# Altium schematic symbol library AD5689RBRUZ.SchLib: 1 symbol
Pins are listed as number, name and electrical type; pins without a type are passive.

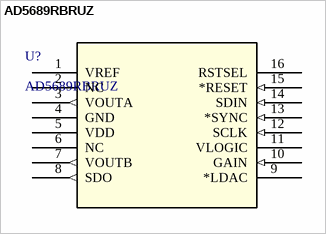
[diagram p0: symbol AD5689RBRUZ]

## AD5689RBRUZ
designator U?
Dual, 16-Bit nanoDAC+ with 2 ppm/Â°C Reference, SPI Interface; Manufacturer_Name: Analog Devices Inc; Copyright: Copyright (C) 2026 Ultra Librarian. All rights reserved.; Manufacturer_Part_Number: AD5689RBRUZ; RefDes: RefDes; Type: Type
footprint RU_16_ADI
pins: 1 VREF (power), 2 NC, 3 VOUTA (out), 4 GND (power), 5 VDD (power), 6 NC, 7 VOUTB (out), 8 SDO (out), 9 *LDAC, 10 GAIN (in), 11 VLOGIC (power), 12 SCLK (in), 13 *SYNC (in), 14 SDIN (in), 15 *RESET (in), 16 RSTSEL (power)